# EAGLE library part IR2110 (library ic)
IR2110: High and low side driver (International Rectifier) 500V operation, 10V gate drive
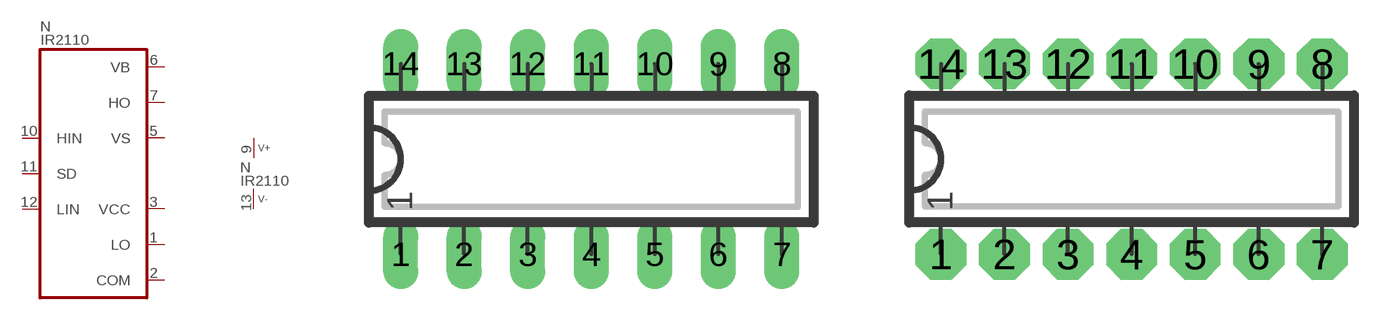
[diagram p105: symbol with the pads of DIP14L; footprints DIP14L, DIP14N]

Designator prefix N; gates  =IR2110 P=V+-

## IR2110  [DIP14L]
1   :LO  out
2   :COM  pwr
3   :VCC  pwr
5   :VS  out
6   :VB  pwr
7   :HO  out
9  P:V+  pwr
10   :HIN  in
11   :SD  in
12   :LIN  in
13  P:V-  pwr

## IR2110L  [DIP14L]
Pads as for DIP14L

## IR2110N  [DIP14N]
Pads as for DIP14L

## IR2110R  [DIP14R]
Pads as for DIP14L

## Footprint DIP14L (pad centres in mm)
DIP-14, long pads Standard IC package, 14 pins
drill 0.813 pad 1.397 long: 1 -7.62,-3.81; 2 -5.08,-3.81; 3 -2.54,-3.81; 4 0,-3.81; 5 2.54,-3.81; 6 5.08,-3.81; 7 7.62,-3.81; 8 7.62,3.81; 9 5.08,3.81; 10 2.54,3.81; 11 0,3.81; 12 -2.54,3.81; 13 -5.08,3.81; 14 -7.62,3.81

## Footprint DIP14N (pad centres in mm)
DIP-14 Standard IC package, 14 pins
drill 0.813 pad 2.032 octagon: 1 -7.62,-3.81; 2 -5.08,-3.81; 3 -2.54,-3.81; 4 0,-3.81; 5 2.54,-3.81; 6 5.08,-3.81; 7 7.62,-3.81; 8 7.62,3.81; 9 5.08,3.81; 10 2.54,3.81; 11 0,3.81; 12 -2.54,3.81; 13 -5.08,3.81; 14 -7.62,3.81

## Footprint DIP14R (pad centres in mm)
DIP-14, reduced pads Standard IC package, 14 pins
drill 0.813 pad 1.397 square: 1 -7.62,-3.81; 2 -5.08,-3.81; 3 -2.54,-3.81; 4 0,-3.81; 5 2.54,-3.81; 6 5.08,-3.81; 7 7.62,-3.81; 8 7.62,3.81; 9 5.08,3.81; 10 2.54,3.81; 11 0,3.81; 12 -2.54,3.81; 13 -5.08,3.81; 14 -7.62,3.81